# Altium footprint library buck.PcbLib: 5 footprints
Each footprint in its own frame and in the unit in brackets; x right, y up, seen from the top. Pads: shape width x height; smd on the part's side, far side on the other; paste and mask are expansions set on the pad; w line width, h text height; cw(c..) or ccw(c..) is an arc to the next point about the centre after c.
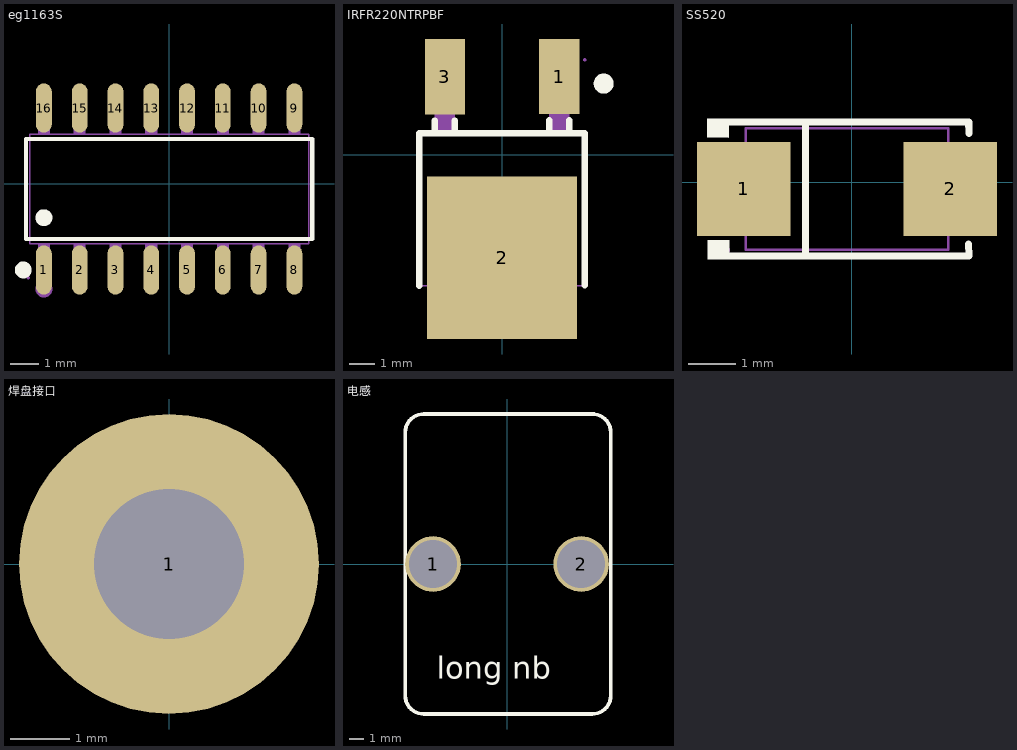
[diagram p0: the footprints below, top view; thin cyan lines are the x and y axes]

## eg1163S [mm]
pads (16):
  oval 0.56x1.745 smd: 1(-4.452,-3.064) 2(-3.182,-3.064) 3(-1.912,-3.064) 4(-0.642,-3.064) 5(0.628,-3.064) 6(1.898,-3.064) 7(3.168,-3.064) 8(4.438,-3.064) 9(4.438,2.68) 10(3.168,2.68) 11(1.898,2.68) 12(0.628,2.68) 13(-0.642,2.68) 14(-1.912,2.68) 15(-3.182,2.68) 16(-4.452,2.68)
Top Overlay:
  circle w0.3: c-5.184,-3.064 r0.15
  circle w0.3: c-4.452,-1.211 r0.15
  lines w0.152: -5.083,-1.963 5.07,-1.963 5.07,1.579 -5.083,1.579 -5.083,-1.963
Mechanical 6:
  circle w0.3: c-4.452,-3.742 r0.15
Mechanical 15:
  drawing of 37 lines, arcs and shapes, not listed

## IRFR220NTRPBF [mm]
pads (3):
  rect 1.6x3 smd: 1(2.285,3.118) 3(-2.285,3.112)
  rect 6x6.5 smd: 2(0,-4.116)
Top Overlay:
  lines w0.254: -3.302,-5.24 -3.302,0.856 3.302,0.856 3.302,-5.214 ; -2.682,0.856 -2.682,1.364 ; -1.887,0.856 -1.887,1.364 ; 1.888,0.863 1.888,1.371 ; 2.683,0.863 2.683,1.371
  lines w0.4: 3.861,2.838 ccw(c4.061,2.839) 3.861,2.84
Mechanical 6:
  circle w0.4: c2.362,4.057 r0.2
Mechanical 15:
  region: 1.888,2.281 1.888,3.781 2.683,3.781 2.683,2.281
  region: 1.888,0.846 1.888,2.291 2.683,2.291 2.683,0.846
  region: -2.683,2.281 -2.683,3.781 -1.888,3.781 -1.888,2.281
  region: -2.683,0.846 -2.683,2.291 -1.888,2.291 -1.888,0.846
  region: 2.625,-6.319 -2.625,-6.319 -2.625,-1.034 2.625,-1.034
  region: 3.36,3.781 3.36,3.806 3.325,3.841 3.275,3.841 3.24,3.806 3.24,3.781 3.24,3.756 3.275,3.721 3.325,3.721 3.36,3.756 3.36,3.781
  lines w0.051: -3.3,-5.244 -3.3,0.856 3.3,0.856 3.3,-5.244 -3.3,-5.244

## SS520 [mm]
pads (2):
  rect 2x2 smd: 1(-2.302,-0.148) 2(2.098,-0.148)
Top Overlay:
  region: -2.622,1.354 -2.623,0.947 -3.083,0.952 -3.079,1.354
  region: -2.614,-1.244 -2.615,-1.651 -3.075,-1.646 -3.071,-1.244
  lines w0.152: -2.698,-1.575 2.494,-1.575 ; -2.698,1.278 2.494,1.278 2.501,1.039 ; -0.986,-1.575 -0.986,1.278 ; 2.491,-1.324 2.498,-1.563
Mechanical 6:
  region: -2.419,-0.25 -2.419,-0.047 -1.609,-0.047 -1.609,-0.25
  region: 2.216,-0.25 2.216,-0.047 1.406,-0.047 1.406,-0.25
  region: 1.912,-0.823 1.912,0.527 1.709,0.527 1.709,-0.823
Mechanical 15:
  region: 2.458,0.576 2.458,-0.874 1.333,-0.874 1.333,0.576
  region: -1.537,0.577 -1.537,-0.873 -2.662,-0.873 -2.662,0.577
  region: -2.602,-1.448 -2.602,-1.424 -2.637,-1.39 -2.686,-1.39 -2.721,-1.424 -2.722,-1.448 -2.721,-1.473 -2.686,-1.507 -2.637,-1.507 -2.602,-1.473 -2.602,-1.448
  lines w0.051: -2.262,-1.448 2.058,-1.448 2.058,1.152 -2.262,1.152 -2.262,-1.448

## 焊盘接口 [mm]
pads (1):
  round 5.08 hole 2.54: 1(0,0)

## 电感 [mil]
pads (2):
  round 150 hole 130: 1(-200,0) 2(200,0)
Top Overlay:
  lines w10: 230,405 cw(c230,355) 280,355 280,-305 280,-355 cw(c230,-355) 230,-405 -225,-405 cw(c-225,-355) -275,-355 -275,355 cw(c-225,355) -225,405 -150,405 150,405 235,405
  text "long nb" at -190,-309.98 h60